# Altium footprint library Main_Board.PcbLib: 78 footprints (part 5 of 5)
Each footprint in its own frame and in the unit in brackets; x right, y up, seen from the top. Pads: shape width x height; smd on the part's side, far side on the other; paste and mask are expansions set on the pad; w line width, h text height; cw(c..) or ccw(c..) is an arc to the next point about the centre after c.
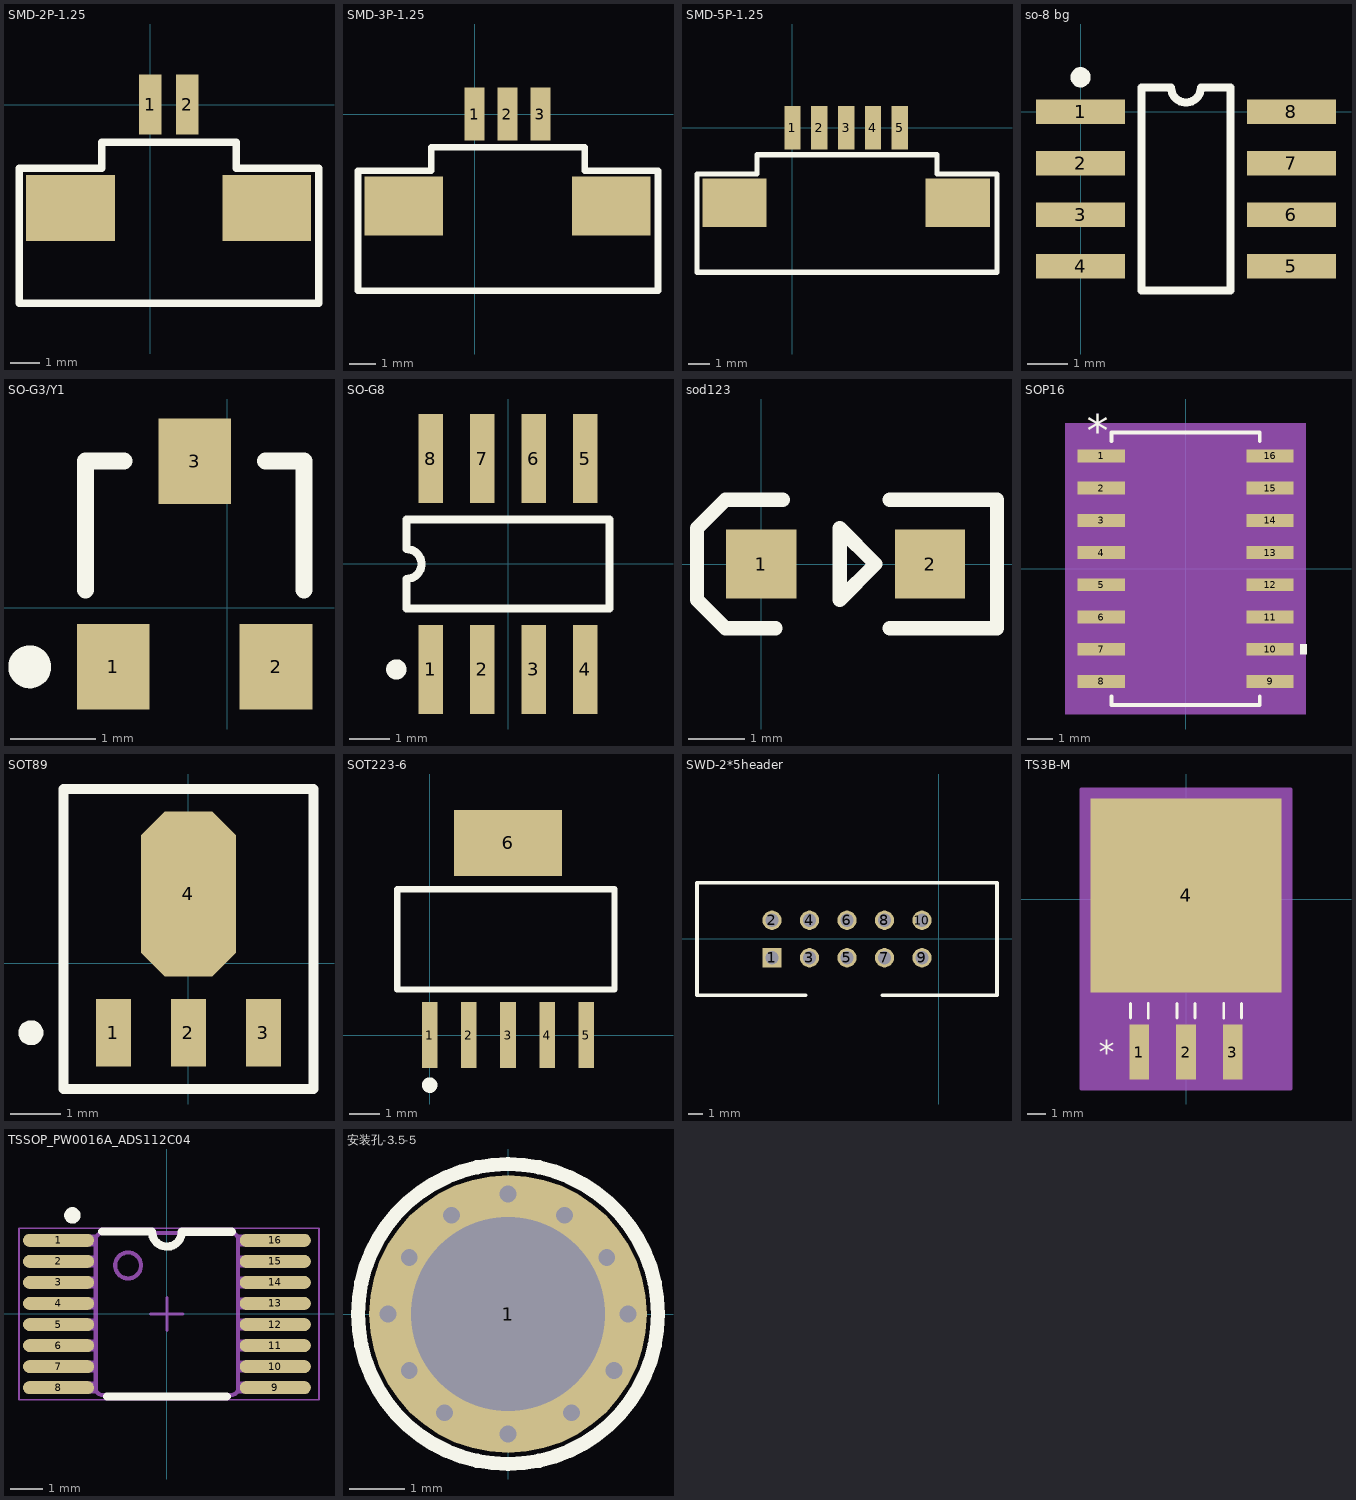
[diagram p4: the footprints below, top view; thin cyan lines are the x and y axes]

## SMD-2P-1.25 [mm]
height 1.45
pads (4):
  rect 0.762x2.032 smd: 1(0,0) 2(1.25,0)
  rect 3x2.25 smd: ""(-2.7,-3.5) ""(3.95,-3.5)
Top Overlay:
  lines w0.254: -4.445,-6.731 5.715,-6.731 5.715,-2.159 2.921,-2.159 2.921,-1.27 -1.651,-1.27 -1.651,-2.159 -4.445,-2.159 -4.445,-6.731

## SMD-3P-1.25 [mm]
height 1.45
pads (5):
  rect 0.762x2.032 smd: 1(0,0) 2(1.25,0) 3(2.5,0)
  rect 3x2.25 smd: ""(-2.7,-3.5) ""(5.2,-3.5)
Top Overlay:
  lines w0.254: -4.445,-6.731 -4.445,-2.159 -1.651,-2.159 -1.651,-1.27 4.191,-1.27 4.191,-2.159 6.985,-2.159 6.985,-6.731 -4.445,-6.731

## SMD-5P-1.25 [mm]
height 1.45
pads (7):
  rect 0.762x2.032 smd: 1(0,0) 2(1.25,0) 3(2.5,0) 4(3.75,0) 5(5,0)
  rect 3x2.25 smd: ""(-2.7,-3.5) ""(7.7,-3.5)
Top Overlay:
  lines w0.254: -4.445,-6.731 -4.445,-2.159 -1.651,-2.159 -1.651,-1.27 6.731,-1.27 6.731,-2.159 9.525,-2.159 9.525,-6.731 -4.445,-6.731

## so-8 bg [mm]
pads (8):
  rect 2.2x0.6 smd: 1(0,0) 2(0,-1.27) 3(0,-2.54) 4(0,-3.81) 5(5.2,-3.81) 6(5.2,-2.54) 7(5.2,-1.27) 8(5.2,0)
Top Overlay:
  circle w0.25: c0,0.85 r0.125
  lines w0.2: 2.233,0.595 ccw(c2.6,0.595) 2.967,0.595 ; 2.233,0.595 1.5,0.595 1.5,-4.405 3.7,-4.405 3.7,0.595 2.967,0.595

## SO-G3/Y1 [mm]
height 1.2
pads (3):
  rect 0.85x1 smd: 1(-1.331,-0.692) 2(0.569,-0.692) 3(-0.381,1.708)
Top Overlay:
  circle w0.25: c-2.306,-0.692 r0.125
  lines w0.2: -1.656,0.208 -1.656,1.708 -1.206,1.708 ; 0.444,1.708 0.894,1.708 0.894,0.208

## SO-G8 [mm]
height 1.45
pads (8):
  rect 0.6x2.2 smd: 1(-1.905,-2.6) 2(-0.635,-2.6) 3(0.635,-2.6) 4(1.905,-2.6) 5(1.905,2.6) 6(0.635,2.6) 7(-0.635,2.6) 8(-1.905,2.6)
Top Overlay:
  circle w0.25: c-2.755,-2.6 r0.125
  lines w0.2: -2.5,-1.1 2.5,-1.1 2.5,1.1 -2.5,1.1 -2.5,0.367 cw(c-2.5,0) -2.5,-0.367 -2.5,-1.1

## sod123 [mm]
pads (2):
  rect 1.25x1.22 smd: 1(0,0) 2(3,0)
Top Overlay:
  lines w0.254: 0.254,-1.143 -0.635,-1.143 -1.143,-0.635 -1.143,0.635 -0.635,1.143 0.381,1.143 ; 2.286,-1.143 4.191,-1.143 4.191,1.143 2.286,1.143 ; 1.397,-0.635 2.032,0 1.397,0.635 1.397,-0.635

## SOP16 [mil] "CH340B/SN65"
pads (16):
  rect 73x20 smd paste+0 mask+0: 1(-131,175) 2(-131,125) 3(-131,75) 4(-131,25) 5(-131,-25) 6(-131,-75) 7(-131,-125) 8(-131,-175) 9(131,-175) 10(131,-125) 11(131,-75) 12(131,-25) 13(131,25) 14(131,75) 15(131,125) 16(131,175)
Top Overlay:
  region: 177.5,-117.5 187.5,-117.5 187.5,-132.5 177.5,-132.5
  lines w6: -115,-198.1 -115,-211.5 115,-211.5 115,-198.1 ; -115,198.1 -115,211.5 115,211.5 115,198.1
  text "*" at -153.5,190 h50
Mechanical 5:
  region: 186.5,-225.5 -186.5,-225.5 -186.5,225.5 186.5,225.5
Mechanical 13:
  lines w0: -12,206.5 ccw(c0,206.5) 12,206.5
  lines w1: -161.5,-185 -110,-185 -110,-165 -161.5,-165 -161.5,-185 ; -161.5,-135 -110,-135 -110,-115 -161.5,-115 -161.5,-135 ; -161.5,-85 -110,-85 -110,-65 -161.5,-65 -161.5,-85 ; -161.5,-35 -110,-35 -110,-15 -161.5,-15 -161.5,-35 ; -161.5,15 -110,15 -110,35 -161.5,35 -161.5,15 ; -161.5,65 -110,65 -110,85 -161.5,85 -161.5,65 ; -161.5,115 -110,115 -110,135 -161.5,135 -161.5,115 ; -161.5,165 -110,165 -110,185 -161.5,185 -161.5,165 ; -110,-206.5 -110,206.5 110,206.5 110,-206.5 -110,-206.5 ; 110,-185 161.5,-185 161.5,-165 110,-165 110,-185 ; 110,-135 161.5,-135 161.5,-115 110,-115 110,-135 ; 110,-85 161.5,-85 161.5,-65 110,-65 110,-85 ; 110,-35 161.5,-35 161.5,-15 110,-15 110,-35 ; 110,15 161.5,15 161.5,35 110,35 110,15 ; 110,65 161.5,65 161.5,85 110,85 110,65 ; 110,115 161.5,115 161.5,135 110,135 110,115 ; 110,165 161.5,165 161.5,185 110,185 110,165
  text "*" at -107.5,153.5 h50
Mechanical 15:
  region: -114,-189 -171.5,-189 -171.5,189 -114,189 -114,210.5 114,210.5 114,189 171.5,189 171.5,-189 114,-189 114,-210.5 -114,-210.5
  lines w6: -171.5,-189 -114,-189 -114,-210.5 114,-210.5 114,-189 171.5,-189 171.5,189 114,189 114,210.5 -114,210.5 -114,189 -171.5,189 -171.5,-189
3D body: height 10, standoff 0, extent 0,0 10,10

## SOT89 [mm] "SOT-89; Body 4.6 x 4.25 mm, inc. leads (LxW max)"
height 1.6
pads (4):
  rect 0.7x1.35 smd: 1(-1.5,-1.388) 2(0,-1.388) 3(1.5,-1.388)
  oct 1.9x3.3 smd: 4(0,1.388)
Top Overlay:
  circle w0.25: c-3.15,-1.388 r0.125
  lines w0.2: -2.5,-2.513 2.5,-2.513 2.5,3.487 -2.5,3.487 -2.5,-2.513

## SOT223-6 [mm]
pads (6):
  rect 0.51x2.15 smd: 1(0,0) 2(1.27,0) 3(2.54,0) 4(3.81,0) 5(5.08,0)
  rect 3.5x2.15 smd: 6(2.54,6.223)
Top Overlay:
  circle w0.25: c0,-1.625 r0.125
  lines w0.2: -1.05,1.475 5.994,1.475 5.994,4.725 -1.05,4.725 -1.05,1.475

## SWD-2*5header [mm]
pads (10):
  rect 1.3x1.3 hole 0.9: 1(-11.303,-1.27)
  round 1.3 hole 0.9: 2(-11.303,1.27) 3(-8.763,-1.27) 4(-8.763,1.27) 5(-6.223,-1.27) 6(-6.223,1.27) 7(-3.683,-1.27) 8(-3.683,1.27) 9(-1.143,-1.27) 10(-1.143,1.27)
Top Overlay:
  lines w0.254: -9.017,-3.81 -16.383,-3.81 -16.383,3.81 3.937,3.81 3.937,-3.81 -3.81,-3.81

## TS3B-M [mil]
pads (4):
  rect 42x118 smd: 1(-100,-328) 2(0,-328) 3(100,-328)
  rect 410x416 smd: 4(0,8)
Top Overlay:
  lines w6: -119,-255 -119,-224 ; -81,-255 -81,-224 ; -19,-255 -19,-224 ; 19,-255 19,-224 ; 81,-255 81,-224 ; 119,-255 119,-224
  text "*" at -187.5,-353 h50
Mechanical 13:
  lines w1: -205,-200 205,-200 205,200 -205,200 -205,-200 ; -119,-365 -119,-200 -81,-200 -81,-365 -119,-365 ; -19,-365 -19,-200 19,-200 19,-365 -19,-365 ; 81,-365 81,-200 119,-200 119,-365 81,-365
  text "*" at -187.5,-353 h50
Mechanical 15:
  region: 225,-407 -225,-407 -225,236 225,236
  lines w6: -225,-407 -225,236 225,236 225,-407 -225,-407
3D body: height 10, standoff 0, extent 0,0 10,10

## TSSOP_PW0016A_ADS112C04 [mm]
pads (16):
  oval 2.2x0.4 smd paste+0 mask+0: 1(-3.35,2.275) 2(-3.35,1.625) 3(-3.35,0.975) 4(-3.35,0.325) 5(-3.35,-0.325) 6(-3.35,-0.975) 7(-3.35,-1.625) 8(-3.35,-2.275) 9(3.35,-2.275) 10(3.35,-1.625) 11(3.35,-0.975) 12(3.35,-0.325) 13(3.35,0.325) 14(3.35,0.975) 15(3.35,1.625) 16(3.35,2.275)
Top Overlay:
  circle w0.254: c-2.921,3.048 r0.127
  lines w0.254: -2,2.55 -0.458,2.55 ; -1.85,-2.55 1.85,-2.55 ; -0.458,2.549 ccw(c0,2.54) 0.458,2.54 ; 0.458,2.539 2,2.539
Mechanical 13:
  drawing of 202 lines, arcs and shapes, not listed
Mechanical 15:
  lines w0.05: -4.572,-2.65 -4.572,2.65 4.699,2.65 4.699,-2.65 -4.572,-2.65
  lines w0.1: -0.5,0 0.5,0 ; 0,-0.5 0,0.5
3D body: height 0.25, standoff 0, extent 0,0 0.254,0.254

## 安装孔-3.5-5 [mm]
pads (1):
  round 5 hole 3.5: 1(0,0)
via -1.778,-1.016 diameter 0.635 hole 0.305
via -1.143,-1.778 diameter 0.635 hole 0.305
via 1.143,-1.778 diameter 0.635 hole 0.305
via 1.905,-1.016 diameter 0.635 hole 0.305
via 1.778,1.016 diameter 0.635 hole 0.305
via 1.016,1.778 diameter 0.635 hole 0.305
via -1.016,1.778 diameter 0.635 hole 0.305
via -1.778,1.016 diameter 0.635 hole 0.305
via 2.159,0 diameter 0.635 hole 0.305
via 0,-2.159 diameter 0.635 hole 0.305
via -2.159,0 diameter 0.635 hole 0.305
via 0,2.159 diameter 0.635 hole 0.305
Top Overlay:
  circle w0.254: c0,0 r2.7